# Altium integrated library TI Power Management Switching Regulator Charge Pump (Inductorless).IntLib: 239 symbols (part 6 of 14)
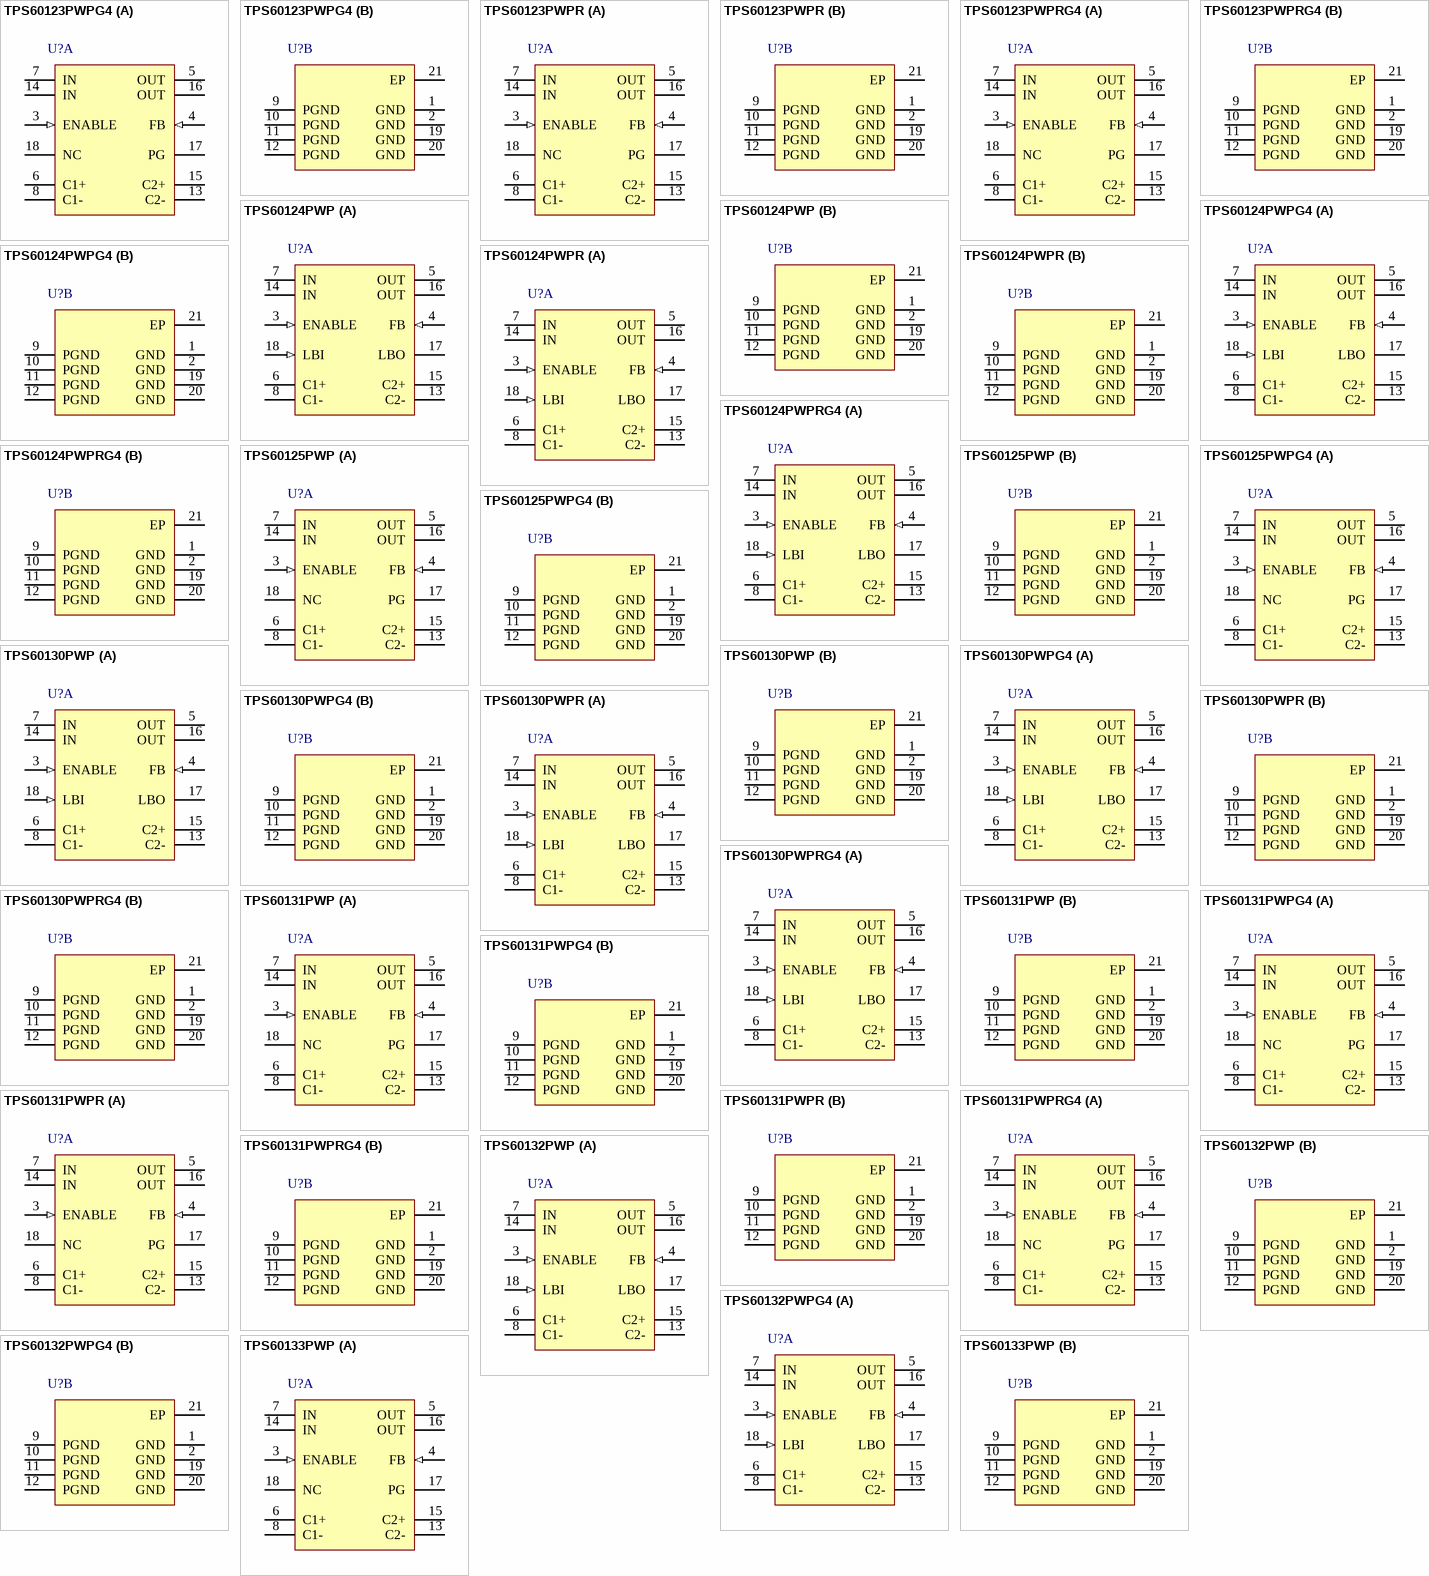
[diagram p12: symbols TPS60123PWPG4 to TPS60133PWP]

## TPS60125PWPG4
designator U?
3 V, Step-Up Charge Pump Regulator, 200 mA, 1.8 to 3.6 V Input with 2-Cell Alkaline / Nixx Input, -40 to 85 degC, 20-pin SOP (PWP20), Green (RoHS & no Sb/Br); Manufacturer: Texas Instruments; PartNumber: TPS60125PWPG4; 2-Cell Alkaline/Nixx Input: TRUE; Efficiency(Typ)(%): 85; Iout(Max)(A): 0.2; Iq(Typ)(mA): 0.055; Preset Vout(V): 3; Switching Frequency(Max)(kHz): 450; Topology: Boost; Vin(Max)(V): 3.6; Vin(Min)(V): 1.8; Vout(Max)(V): 3.12; Vout(Min)(V): 2.88; DatasheetVersion: SLVS257B; PackageVersion: 4073225-4/I; PackageReference: PWP20-2680X1950TP; PackageDescription: 20-Pin Plastic Small Outline, Body 6.5 x 4.4 mm, Pitch 0.65 mm; Supplier 1: Digi-Key; Supplier Part Number 1: TPS60125PWPG4-ND; Supplier 2: Mouser; Supplier Part Number 2: 595-TPS60125PWPG4; Eco-Plan: Green (RoHS & no Sb/Br); Mounting Technology: Surface Mount; Code_JEDEC: MO-153; ComponentLink1Description: Manufacturer URL; ComponentLink1URL: http://www.ti.com/; ComponentLink2Description: Datasheet; ComponentLink2URL: http://www.ti.com/general/docs/lit/getliterature.tsp?genericPartNumber=TPS60125&fileType=pdf; ComponentLink3Description: Package Specification; ComponentLink3URL: http://www.ti.com/litv/pdf/mhts001g
footprint TI-PWP20-2680X1950TP_N (SOP, 20-Leads, Body 6.4x4.4mm, Pitch 0.65mm, Thermal Pad 1.95x2.675mm, IPC Medium Density)
footprint TI-PWP20-2680X1950TP_L (SOP, 20-Leads, Body 6.4x4.4mm, Pitch 0.65mm, Thermal Pad 1.95x2.675mm, IPC High Density)
footprint TI-PWP20-2680X1950TP_M (SOP, 20-Leads, Body 6.4x4.4mm, Pitch 0.65mm, Thermal Pad 1.95x2.675mm, IPC Low Density)
part A pins: 3 ENABLE (in) "ENABLE input. Connect ENABLE to IN for normal operation. When ENABLE is a logic low, the device turns off and the supply current decreases to 0.05 µA. The output is disconnected from the input when the device is placed in", 4 FB (in) "Feedback input. Connect FB to OUT as close to the load as possible to achieve best regulation. Resistive divider is on the chip to match the internal reference voltage of 1.21 V.", 5 OUT (power) "Regulated power output. Connect both OUT terminals through a short trace and bypass OUT to GND with the output filter capacitor CO.", 6 C1+ "Positive terminal of the flying capacitor C1", 7 IN (power) "Supply input. Connect to an input supply in the 1.8-V to 3.6-V range. Bypass IN to PGND with a (CO/2) µF capacitor .Connect both INs through a short trace.", 8 C1- "Negative terminal of the flying capacitor C1", 13 C2- "Negative terminal of the flying capacitor C2", 14 IN (power) "Supply input. Connect to an input supply in the 1.8-V to 3.6-V range. Bypass IN to PGND with a (CO/2) µF capacitor .Connect both INs through a short trace.", 15 C2+ "Positive terminal of the flying capacitor C2", 16 OUT (power) "Regulated power output. Connect both OUT terminals through a short trace and bypass OUT to GND with the output filter capacitor CO.", 17 PG (hiz) "Low battery detector output or power good output. Open drain output of the low battery or power-good comparator. It can sink 1 mA. A 100-k ohm to 1-Mohm pullup is recommended. Leave terminal unconnected if not used.", 18 NC "Low battery detector input (TPS60120/TPS60122/TPS60124 only). The input is compared to the internal 1.21-V reference voltage. Connect terminal to ground if the low-battery detector function is not used. On the TPS60121, (See Datasheet)"
part B pins: 1 GND (power) "Ground. Analog ground for internal reference and control circuitry. Connect to PGND through a short trace.", 2 GND (power) "Ground. Analog ground for internal reference and control circuitry. Connect to PGND through a short trace.", 9 PGND (power) "Power ground. Charge-pump current flows through this pin. Connect all PGND pins together.", 10 PGND (power) "Power ground. Charge-pump current flows through this pin. Connect all PGND pins together.", 11 PGND (power) "Power ground. Charge-pump current flows through this pin. Connect all PGND pins together.", 12 PGND (power) "Power ground. Charge-pump current flows through this pin. Connect all PGND pins together.", 19 GND (power) "Ground. Analog ground for internal reference and control circuitry. Connect to PGND through a short trace.", 20 GND (power) "Ground. Analog ground for internal reference and control circuitry. Connect to PGND through a short trace.", 21 EP "The Thermal Pad."

## TPS60130PWP
designator U?
5 V, Boost Charge Pump, 300 mA, 2.7 to 5.4 V Input, -40 to 85 degC, 20-pin SOP (PWP20), Green (RoHS & no Sb/Br); Manufacturer: Texas Instruments; PartNumber: TPS60130PWP; Efficiency(Typ)(%): 85; Iout(Max)(A): 0.3; Iq(Typ)(mA): 0.06; Preset Vout(V): 5; Switching Frequency(Max)(kHz): 450; Vin(Max)(V): 5.4; Vin(Min)(V): 2.7; Vout(Max)(V): 4.8; Vout(Min)(V): 5.2; DatasheetVersion: SLVS258A; PackageVersion: 4073225-4/I; PackageReference: PWP20-2680X1950TP; PackageDescription: 20-Pin Plastic Small Outline, Body 6.5 x 4.4 mm, Pitch 0.65 mm; Supplier 1: Digi-Key; Supplier Part Number 1: 296-2271-5-ND; Supplier 2: Newark; Supplier Part Number 2: 19C9053; Supplier 3: Mouser; Supplier Part Number 3: 595-TPS60130PWP; Eco-Plan: Green (RoHS & no Sb/Br); Topology: Boost; Mounting Technology: Surface Mount; Code_JEDEC: MO-153; ComponentLink1Description: Manufacturer URL; ComponentLink1URL: http://www.ti.com/; ComponentLink2Description: Datasheet; ComponentLink2URL: http://www.ti.com/general/docs/lit/getliterature.tsp?genericPartNumber=TPS60130&fileType=pdf; ComponentLink3Description: Package Specification; ComponentLink3URL: http://www.ti.com/litv/pdf/mhts001g
footprint TI-PWP20-2680X1950TP_N (SOP, 20-Leads, Body 6.4x4.4mm, Pitch 0.65mm, Thermal Pad 1.95x2.675mm, IPC Medium Density)
footprint TI-PWP20-2680X1950TP_L (SOP, 20-Leads, Body 6.4x4.4mm, Pitch 0.65mm, Thermal Pad 1.95x2.675mm, IPC High Density)
footprint TI-PWP20-2680X1950TP_M (SOP, 20-Leads, Body 6.4x4.4mm, Pitch 0.65mm, Thermal Pad 1.95x2.675mm, IPC Low Density)
part A pins: 3 ENABLE (in) "ENABLE input. Connect ENABLE to IN for normal operation. When ENABLE is a logic low, the device turns off and the supply current decreases to 0.05 uA. The output is disconnected from the input when the device is placed in (See Datasheet)", 4 FB (in) "Feedback input. Connect FB to OUT as close to the load as possible to achieve best regulation. Resistive divider is on the chip to match the internal reference voltage of 1.21 V.", 5 OUT (power) "Regulated power output. Connect both OUT terminals through a short trace and bypass OUT to GND with the output filter capacitor CO.", 6 C1+ "Positive terminal of the flying capacitor C1", 7 IN (power) "Supply input. Connect to an input supply in the 1.8-V to 3.6-V range. Bypass IN to PGND with a (CO/2) uF capacitor.Connect both INs through a short trace.", 8 C1- "Negative terminal of the flying capacitor C1", 13 C2- "Negative terminal of the flying capacitor C2", 14 IN (power) "Supply input. Connect to an input supply in the 1.8-V to 3.6-V range. Bypass IN to PGND with a (CO/2) uF capacitor.Connect both INs through a short trace.", 15 C2+ "Positive terminal of the flying capacitor C2", 16 OUT (power) "Regulated power output. Connect both OUT terminals through a short trace and bypass OUT to GND with the output filter capacitor CO.", 17 LBO (hiz) "Low battery detector output or power good output. Open drain output of the low battery or power-good comparator.It can sink 1 mA. A 100-kohm to 1-Mohm pullup is recommended. Leave terminal unconnected if not used.", 18 LBI (in) "Low battery detector input (TPS60120/TPS60122/TPS60124 only). The input is compared to the internal 1.21-V reference voltage. Connect terminal to ground if the low-battery detector function is not used. On the (See Datasheet)"
part B pins: 1 GND (power) "Ground. Analog ground for internal reference and control circuitry. Connect to PGND through a short trace.", 2 GND (power) "Ground. Analog ground for internal reference and control circuitry. Connect to PGND through a short trace.", 9 PGND (power) "Power ground. Charge-pump current flows through this pin. Connect all PGND pins together.", 10 PGND (power) "Power ground. Charge-pump current flows through this pin. Connect all PGND pins together.", 11 PGND (power) "Power ground. Charge-pump current flows through this pin. Connect all PGND pins together.", 12 PGND (power) "Power ground. Charge-pump current flows through this pin. Connect all PGND pins together.", 19 GND (power) "Ground. Analog ground for internal reference and control circuitry. Connect to PGND through a short trace.", 20 GND (power) "Ground. Analog ground for internal reference and control circuitry. Connect to PGND through a short trace.", 21 EP "The Thermal Pad."

## TPS60130PWPG4
designator U?
5 V, Boost Charge Pump, 300 mA, 2.7 to 5.4 V Input, -40 to 85 degC, 20-pin SOP (PWP20), Green (RoHS & no Sb/Br); Manufacturer: Texas Instruments; PartNumber: TPS60130PWPG4; Efficiency(Typ)(%): 85; Iout(Max)(A): 0.3; Iq(Typ)(mA): 0.06; Preset Vout(V): 5; Switching Frequency(Max)(kHz): 450; Vin(Max)(V): 5.4; Vin(Min)(V): 2.7; Vout(Max)(V): 4.8; Vout(Min)(V): 5.2; DatasheetVersion: SLVS258A; PackageVersion: 4073225-4/I; PackageReference: PWP20-2680X1950TP; PackageDescription: 20-Pin Plastic Small Outline, Body 6.5 x 4.4 mm, Pitch 0.65 mm; Supplier 1: Digi-Key; Supplier Part Number 1: TPS60130PWPG4-ND; Supplier 2: Mouser; Supplier Part Number 2: 595-TPS60130PWPG4; Eco-Plan: Green (RoHS & no Sb/Br); Topology: Boost; Mounting Technology: Surface Mount; Code_JEDEC: MO-153; ComponentLink1Description: Manufacturer URL; ComponentLink1URL: http://www.ti.com/; ComponentLink2Description: Datasheet; ComponentLink2URL: http://www.ti.com/general/docs/lit/getliterature.tsp?genericPartNumber=TPS60130&fileType=pdf; ComponentLink3Description: Package Specification; ComponentLink3URL: http://www.ti.com/litv/pdf/mhts001g
footprint TI-PWP20-2680X1950TP_N (SOP, 20-Leads, Body 6.4x4.4mm, Pitch 0.65mm, Thermal Pad 1.95x2.675mm, IPC Medium Density)
footprint TI-PWP20-2680X1950TP_L (SOP, 20-Leads, Body 6.4x4.4mm, Pitch 0.65mm, Thermal Pad 1.95x2.675mm, IPC High Density)
footprint TI-PWP20-2680X1950TP_M (SOP, 20-Leads, Body 6.4x4.4mm, Pitch 0.65mm, Thermal Pad 1.95x2.675mm, IPC Low Density)
part A pins: 3 ENABLE (in) "ENABLE input. Connect ENABLE to IN for normal operation. When ENABLE is a logic low, the device turns off and the supply current decreases to 0.05 uA. The output is disconnected from the input when the device is placed in (See Datasheet)", 4 FB (in) "Feedback input. Connect FB to OUT as close to the load as possible to achieve best regulation. Resistive divider is on the chip to match the internal reference voltage of 1.21 V.", 5 OUT (power) "Regulated power output. Connect both OUT terminals through a short trace and bypass OUT to GND with the output filter capacitor CO.", 6 C1+ "Positive terminal of the flying capacitor C1", 7 IN (power) "Supply input. Connect to an input supply in the 1.8-V to 3.6-V range. Bypass IN to PGND with a (CO/2) uF capacitor.Connect both INs through a short trace.", 8 C1- "Negative terminal of the flying capacitor C1", 13 C2- "Negative terminal of the flying capacitor C2", 14 IN (power) "Supply input. Connect to an input supply in the 1.8-V to 3.6-V range. Bypass IN to PGND with a (CO/2) uF capacitor.Connect both INs through a short trace.", 15 C2+ "Positive terminal of the flying capacitor C2", 16 OUT (power) "Regulated power output. Connect both OUT terminals through a short trace and bypass OUT to GND with the output filter capacitor CO.", 17 LBO (hiz) "Low battery detector output or power good output. Open drain output of the low battery or power-good comparator.It can sink 1 mA. A 100-kohm to 1-Mohm pullup is recommended. Leave terminal unconnected if not used.", 18 LBI (in) "Low battery detector input (TPS60120/TPS60122/TPS60124 only). The input is compared to the internal 1.21-V reference voltage. Connect terminal to ground if the low-battery detector function is not used. On the (See Datasheet)"
part B pins: 1 GND (power) "Ground. Analog ground for internal reference and control circuitry. Connect to PGND through a short trace.", 2 GND (power) "Ground. Analog ground for internal reference and control circuitry. Connect to PGND through a short trace.", 9 PGND (power) "Power ground. Charge-pump current flows through this pin. Connect all PGND pins together.", 10 PGND (power) "Power ground. Charge-pump current flows through this pin. Connect all PGND pins together.", 11 PGND (power) "Power ground. Charge-pump current flows through this pin. Connect all PGND pins together.", 12 PGND (power) "Power ground. Charge-pump current flows through this pin. Connect all PGND pins together.", 19 GND (power) "Ground. Analog ground for internal reference and control circuitry. Connect to PGND through a short trace.", 20 GND (power) "Ground. Analog ground for internal reference and control circuitry. Connect to PGND through a short trace.", 21 EP "The Thermal Pad."

## TPS60130PWPR
designator U?
5 V, Boost Charge Pump, 300 mA, 2.7 to 5.4 V Input, -40 to 85 degC, 20-pin SOP (PWP20), Green (RoHS & no Sb/Br); Manufacturer: Texas Instruments; PartNumber: TPS60130PWPR; Efficiency(Typ)(%): 85; Iout(Max)(A): 0.3; Iq(Typ)(mA): 0.06; Preset Vout(V): 5; Switching Frequency(Max)(kHz): 450; Vin(Max)(V): 5.4; Vin(Min)(V): 2.7; Vout(Max)(V): 4.8; Vout(Min)(V): 5.2; DatasheetVersion: SLVS258A; PackageVersion: 4073225-4/I; PackageReference: PWP20-2680X1950TP; PackageDescription: 20-Pin Plastic Small Outline, Body 6.5 x 4.4 mm, Pitch 0.65 mm; Supplier 1: Digi-Key; Supplier Part Number 1: TPS60130PWPR-ND; Supplier 2: Mouser; Supplier Part Number 2: 595-TPS60130PWPR; Eco-Plan: Green (RoHS & no Sb/Br); Topology: Boost; Mounting Technology: Surface Mount; Code_JEDEC: MO-153; ComponentLink1Description: Manufacturer URL; ComponentLink1URL: http://www.ti.com/; ComponentLink2Description: Datasheet; ComponentLink2URL: http://www.ti.com/general/docs/lit/getliterature.tsp?genericPartNumber=TPS60130&fileType=pdf; ComponentLink3Description: Package Specification; ComponentLink3URL: http://www.ti.com/litv/pdf/mhts001g
footprint TI-PWP20-2680X1950TP_N (SOP, 20-Leads, Body 6.4x4.4mm, Pitch 0.65mm, Thermal Pad 1.95x2.675mm, IPC Medium Density)
footprint TI-PWP20-2680X1950TP_L (SOP, 20-Leads, Body 6.4x4.4mm, Pitch 0.65mm, Thermal Pad 1.95x2.675mm, IPC High Density)
footprint TI-PWP20-2680X1950TP_M (SOP, 20-Leads, Body 6.4x4.4mm, Pitch 0.65mm, Thermal Pad 1.95x2.675mm, IPC Low Density)
part A pins: 3 ENABLE (in) "ENABLE input. Connect ENABLE to IN for normal operation. When ENABLE is a logic low, the device turns off and the supply current decreases to 0.05 uA. The output is disconnected from the input when the device is placed in (See Datasheet)", 4 FB (in) "Feedback input. Connect FB to OUT as close to the load as possible to achieve best regulation. Resistive divider is on the chip to match the internal reference voltage of 1.21 V.", 5 OUT (power) "Regulated power output. Connect both OUT terminals through a short trace and bypass OUT to GND with the output filter capacitor CO.", 6 C1+ "Positive terminal of the flying capacitor C1", 7 IN (power) "Supply input. Connect to an input supply in the 1.8-V to 3.6-V range. Bypass IN to PGND with a (CO/2) uF capacitor.Connect both INs through a short trace.", 8 C1- "Negative terminal of the flying capacitor C1", 13 C2- "Negative terminal of the flying capacitor C2", 14 IN (power) "Supply input. Connect to an input supply in the 1.8-V to 3.6-V range. Bypass IN to PGND with a (CO/2) uF capacitor.Connect both INs through a short trace.", 15 C2+ "Positive terminal of the flying capacitor C2", 16 OUT (power) "Regulated power output. Connect both OUT terminals through a short trace and bypass OUT to GND with the output filter capacitor CO.", 17 LBO (hiz) "Low battery detector output or power good output. Open drain output of the low battery or power-good comparator.It can sink 1 mA. A 100-kohm to 1-Mohm pullup is recommended. Leave terminal unconnected if not used.", 18 LBI (in) "Low battery detector input (TPS60120/TPS60122/TPS60124 only). The input is compared to the internal 1.21-V reference voltage. Connect terminal to ground if the low-battery detector function is not used. On the (See Datasheet)"
part B pins: 1 GND (power) "Ground. Analog ground for internal reference and control circuitry. Connect to PGND through a short trace.", 2 GND (power) "Ground. Analog ground for internal reference and control circuitry. Connect to PGND through a short trace.", 9 PGND (power) "Power ground. Charge-pump current flows through this pin. Connect all PGND pins together.", 10 PGND (power) "Power ground. Charge-pump current flows through this pin. Connect all PGND pins together.", 11 PGND (power) "Power ground. Charge-pump current flows through this pin. Connect all PGND pins together.", 12 PGND (power) "Power ground. Charge-pump current flows through this pin. Connect all PGND pins together.", 19 GND (power) "Ground. Analog ground for internal reference and control circuitry. Connect to PGND through a short trace.", 20 GND (power) "Ground. Analog ground for internal reference and control circuitry. Connect to PGND through a short trace.", 21 EP "The Thermal Pad."

## TPS60130PWPRG4
designator U?
5 V, Boost Charge Pump, 300 mA, 2.7 to 5.4 V Input, -40 to 85 degC, 20-pin SOP (PWP20), Green (RoHS & no Sb/Br); Manufacturer: Texas Instruments; PartNumber: TPS60130PWPRG4; Efficiency(Typ)(%): 85; Iout(Max)(A): 0.3; Iq(Typ)(mA): 0.06; Preset Vout(V): 5; Switching Frequency(Max)(kHz): 450; Vin(Max)(V): 5.4; Vin(Min)(V): 2.7; Vout(Max)(V): 4.8; Vout(Min)(V): 5.2; DatasheetVersion: SLVS258A; PackageVersion: 4073225-4/I; PackageReference: PWP20-2680X1950TP; PackageDescription: 20-Pin Plastic Small Outline, Body 6.5 x 4.4 mm, Pitch 0.65 mm; Supplier 1: Digi-Key; Supplier Part Number 1: TPS60130PWPRG4-ND; Supplier 2: Mouser; Supplier Part Number 2: 595-TPS60130PWPRG4; Eco-Plan: Green (RoHS & no Sb/Br); Topology: Boost; Mounting Technology: Surface Mount; Code_JEDEC: MO-153; ComponentLink1Description: Manufacturer URL; ComponentLink1URL: http://www.ti.com/; ComponentLink2Description: Datasheet; ComponentLink2URL: http://www.ti.com/general/docs/lit/getliterature.tsp?genericPartNumber=TPS60130&fileType=pdf; ComponentLink3Description: Package Specification; ComponentLink3URL: http://www.ti.com/litv/pdf/mhts001g
footprint TI-PWP20-2680X1950TP_N (SOP, 20-Leads, Body 6.4x4.4mm, Pitch 0.65mm, Thermal Pad 1.95x2.675mm, IPC Medium Density)
footprint TI-PWP20-2680X1950TP_L (SOP, 20-Leads, Body 6.4x4.4mm, Pitch 0.65mm, Thermal Pad 1.95x2.675mm, IPC High Density)
footprint TI-PWP20-2680X1950TP_M (SOP, 20-Leads, Body 6.4x4.4mm, Pitch 0.65mm, Thermal Pad 1.95x2.675mm, IPC Low Density)
part A pins: 3 ENABLE (in) "ENABLE input. Connect ENABLE to IN for normal operation. When ENABLE is a logic low, the device turns off and the supply current decreases to 0.05 uA. The output is disconnected from the input when the device is placed in (See Datasheet)", 4 FB (in) "Feedback input. Connect FB to OUT as close to the load as possible to achieve best regulation. Resistive divider is on the chip to match the internal reference voltage of 1.21 V.", 5 OUT (power) "Regulated power output. Connect both OUT terminals through a short trace and bypass OUT to GND with the output filter capacitor CO.", 6 C1+ "Positive terminal of the flying capacitor C1", 7 IN (power) "Supply input. Connect to an input supply in the 1.8-V to 3.6-V range. Bypass IN to PGND with a (CO/2) uF capacitor.Connect both INs through a short trace.", 8 C1- "Negative terminal of the flying capacitor C1", 13 C2- "Negative terminal of the flying capacitor C2", 14 IN (power) "Supply input. Connect to an input supply in the 1.8-V to 3.6-V range. Bypass IN to PGND with a (CO/2) uF capacitor.Connect both INs through a short trace.", 15 C2+ "Positive terminal of the flying capacitor C2", 16 OUT (power) "Regulated power output. Connect both OUT terminals through a short trace and bypass OUT to GND with the output filter capacitor CO.", 17 LBO (hiz) "Low battery detector output or power good output. Open drain output of the low battery or power-good comparator.It can sink 1 mA. A 100-kohm to 1-Mohm pullup is recommended. Leave terminal unconnected if not used.", 18 LBI (in) "Low battery detector input (TPS60120/TPS60122/TPS60124 only). The input is compared to the internal 1.21-V reference voltage. Connect terminal to ground if the low-battery detector function is not used. On the (See Datasheet)"
part B pins: 1 GND (power) "Ground. Analog ground for internal reference and control circuitry. Connect to PGND through a short trace.", 2 GND (power) "Ground. Analog ground for internal reference and control circuitry. Connect to PGND through a short trace.", 9 PGND (power) "Power ground. Charge-pump current flows through this pin. Connect all PGND pins together.", 10 PGND (power) "Power ground. Charge-pump current flows through this pin. Connect all PGND pins together.", 11 PGND (power) "Power ground. Charge-pump current flows through this pin. Connect all PGND pins together.", 12 PGND (power) "Power ground. Charge-pump current flows through this pin. Connect all PGND pins together.", 19 GND (power) "Ground. Analog ground for internal reference and control circuitry. Connect to PGND through a short trace.", 20 GND (power) "Ground. Analog ground for internal reference and control circuitry. Connect to PGND through a short trace.", 21 EP "The Thermal Pad."

## TPS60131PWP
designator U?
5 V, Boost Charge Pump, 300 mA, 2.7 to 5.4 V Input, -40 to 85 degC, 20-pin SOP (PWP20), Green (RoHS & no Sb/Br); Manufacturer: Texas Instruments; PartNumber: TPS60131PWP; Efficiency(Typ)(%): 85; Iout(Max)(A): 0.3; Iq(Typ)(mA): 0.06; Preset Vout(V): 5; Switching Frequency(Max)(kHz): 450; Vin(Max)(V): 5.4; Vin(Min)(V): 2.7; Vout(Max)(V): 4.8; Vout(Min)(V): 5.2; DatasheetVersion: SLVS258A; PackageVersion: 4073225-4/I; PackageReference: PWP20-2680X1950TP; PackageDescription: 20-Pin Plastic Small Outline, Body 6.5 x 4.4 mm, Pitch 0.65 mm; Supplier 1: Digi-Key; Supplier Part Number 1: 296-2272-5-ND; Supplier 2: Mouser; Supplier Part Number 2: 595-TPS60131PWP; Eco-Plan: Green (RoHS & no Sb/Br); Topology: Boost; Mounting Technology: Surface Mount; Code_JEDEC: MO-153; ComponentLink1Description: Manufacturer URL; ComponentLink1URL: http://www.ti.com/; ComponentLink2Description: Datasheet; ComponentLink2URL: http://www.ti.com/general/docs/lit/getliterature.tsp?genericPartNumber=TPS60131&fileType=pdf; ComponentLink3Description: Package Specification; ComponentLink3URL: http://www.ti.com/litv/pdf/mhts001g
footprint TI-PWP20-2680X1950TP_N (SOP, 20-Leads, Body 6.4x4.4mm, Pitch 0.65mm, Thermal Pad 1.95x2.675mm, IPC Medium Density)
footprint TI-PWP20-2680X1950TP_L (SOP, 20-Leads, Body 6.4x4.4mm, Pitch 0.65mm, Thermal Pad 1.95x2.675mm, IPC High Density)
footprint TI-PWP20-2680X1950TP_M (SOP, 20-Leads, Body 6.4x4.4mm, Pitch 0.65mm, Thermal Pad 1.95x2.675mm, IPC Low Density)
part A pins: 3 ENABLE (in) "Enable input. Connect ENABLE to IN for normal operation. When ENABLE is a logic low, the device turns off and the supply current decreases to 0.05 uA. The output is disconnected from the input when the device is disabled.", 4 FB (in) "Feedback input. Connect FB to OUT as close to the load as possible to achieve best regulation. A resistive divider is on the chip to match internal reference voltage of 1.21 V.", 5 OUT (power) "Regulated 5-V power output. Connect both OUT terminals through a short trace and bypass OUT to GND with the output filter capacitor CO.", 6 C1+ "Positive terminal of the flying capacitor C1", 7 IN (power) "Supply input. Bypass IN to PGND with a capacitor that has half of the capacitance of the output capacitor. Connect both IN terminals together through a short trace.", 8 C1- "Negative terminal of the flying capacitor C1", 13 C2- "Negative terminal of the flying capacitor C2", 14 IN (power) "Supply input. Bypass IN to PGND with a capacitor that has half of the capacitance of the output capacitor. Connect both IN terminals together through a short trace.", 15 C2+ "Positive terminal of the flying capacitor C2", 16 OUT (power) "Regulated 5-V power output. Connect both OUT terminals through a short trace and bypass OUT to GND with the output filter capacitor CO.", 17 PG (hiz) "Open drain output of the low battery or power good comparator. It can sink 1 mA. A 100-k ohm to 1-Mohm pullup resistor to OUT is recommended. Leave the terminal unconnected if the low battery or power good detector is not (See Datasheet)", 18 NC "This terminal is not connected."
part B pins: 1 GND (power) "Ground. Analog ground for internal reference and control circuitry. Connect to PGND terminals through a short trace.", 2 GND (power) "Ground. Analog ground for internal reference and control circuitry. Connect to PGND terminals through a short trace.", 9 PGND (power) "Power ground. Charge-pump current flows through this pin. Connect all PGND terminals together.", 10 PGND (power) "Power ground. Charge-pump current flows through this pin. Connect all PGND terminals together.", 11 PGND (power) "Power ground. Charge-pump current flows through this pin. Connect all PGND terminals together.", 12 PGND (power) "Power ground. Charge-pump current flows through this pin. Connect all PGND terminals together.", 19 GND (power) "Ground. Analog ground for internal reference and control circuitry. Connect to PGND terminals through a short trace.", 20 GND (power) "Ground. Analog ground for internal reference and control circuitry. Connect to PGND terminals through a short trace.", 21 EP "Exposed thermal pad."

## TPS60131PWPG4
designator U?
5 V, Boost Charge Pump, 300 mA, 2.7 to 5.4 V Input, -40 to 85 degC, 20-pin SOP (PWP20), Green (RoHS & no Sb/Br); Manufacturer: Texas Instruments; PartNumber: TPS60131PWPG4; Efficiency(Typ)(%): 85; Iout(Max)(A): 0.3; Iq(Typ)(mA): 0.06; Preset Vout(V): 5; Switching Frequency(Max)(kHz): 450; Vin(Max)(V): 5.4; Vin(Min)(V): 2.7; Vout(Max)(V): 4.8; Vout(Min)(V): 5.2; DatasheetVersion: SLVS258A; PackageVersion: 4073225-4/I; PackageReference: PWP20-2680X1950TP; PackageDescription: 20-Pin Plastic Small Outline, Body 6.5 x 4.4 mm, Pitch 0.65 mm; Supplier 1: Digi-Key; Supplier Part Number 1: TPS60131PWPG4-ND; Supplier 2: Farnell; Supplier Part Number 2: 1214368; Supplier 3: Newark; Supplier Part Number 3: 98K1819; Supplier 4: Mouser; Supplier Part Number 4: 595-TPS60131PWPG4; Eco-Plan: Green (RoHS & no Sb/Br); Topology: Boost; Mounting Technology: Surface Mount; Code_JEDEC: MO-153; ComponentLink1Description: Manufacturer URL; ComponentLink1URL: http://www.ti.com/; ComponentLink2Description: Datasheet; ComponentLink2URL: http://www.ti.com/general/docs/lit/getliterature.tsp?genericPartNumber=TPS60131&fileType=pdf; ComponentLink3Description: Package Specification; ComponentLink3URL: http://www.ti.com/litv/pdf/mhts001g
footprint TI-PWP20-2680X1950TP_N (SOP, 20-Leads, Body 6.4x4.4mm, Pitch 0.65mm, Thermal Pad 1.95x2.675mm, IPC Medium Density)
footprint TI-PWP20-2680X1950TP_L (SOP, 20-Leads, Body 6.4x4.4mm, Pitch 0.65mm, Thermal Pad 1.95x2.675mm, IPC High Density)
footprint TI-PWP20-2680X1950TP_M (SOP, 20-Leads, Body 6.4x4.4mm, Pitch 0.65mm, Thermal Pad 1.95x2.675mm, IPC Low Density)
part A pins: 3 ENABLE (in) "Enable input. Connect ENABLE to IN for normal operation. When ENABLE is a logic low, the device turns off and the supply current decreases to 0.05 uA. The output is disconnected from the input when the device is disabled.", 4 FB (in) "Feedback input. Connect FB to OUT as close to the load as possible to achieve best regulation. A resistive divider is on the chip to match internal reference voltage of 1.21 V.", 5 OUT (power) "Regulated 5-V power output. Connect both OUT terminals through a short trace and bypass OUT to GND with the output filter capacitor CO.", 6 C1+ "Positive terminal of the flying capacitor C1", 7 IN (power) "Supply input. Bypass IN to PGND with a capacitor that has half of the capacitance of the output capacitor. Connect both IN terminals together through a short trace.", 8 C1- "Negative terminal of the flying capacitor C1", 13 C2- "Negative terminal of the flying capacitor C2", 14 IN (power) "Supply input. Bypass IN to PGND with a capacitor that has half of the capacitance of the output capacitor. Connect both IN terminals together through a short trace.", 15 C2+ "Positive terminal of the flying capacitor C2", 16 OUT (power) "Regulated 5-V power output. Connect both OUT terminals through a short trace and bypass OUT to GND with the output filter capacitor CO.", 17 PG (hiz) "Open drain output of the low battery or power good comparator. It can sink 1 mA. A 100-k ohm to 1-Mohm pullup resistor to OUT is recommended. Leave the terminal unconnected if the low battery or power good detector is not (See Datasheet)", 18 NC "This terminal is not connected."
part B pins: 1 GND (power) "Ground. Analog ground for internal reference and control circuitry. Connect to PGND terminals through a short trace.", 2 GND (power) "Ground. Analog ground for internal reference and control circuitry. Connect to PGND terminals through a short trace.", 9 PGND (power) "Power ground. Charge-pump current flows through this pin. Connect all PGND terminals together.", 10 PGND (power) "Power ground. Charge-pump current flows through this pin. Connect all PGND terminals together.", 11 PGND (power) "Power ground. Charge-pump current flows through this pin. Connect all PGND terminals together.", 12 PGND (power) "Power ground. Charge-pump current flows through this pin. Connect all PGND terminals together.", 19 GND (power) "Ground. Analog ground for internal reference and control circuitry. Connect to PGND terminals through a short trace.", 20 GND (power) "Ground. Analog ground for internal reference and control circuitry. Connect to PGND terminals through a short trace.", 21 EP "Exposed thermal pad."

## TPS60131PWPR
designator U?
5 V, Boost Charge Pump, 300 mA, 2.7 to 5.4 V Input, -40 to 85 degC, 20-pin SOP (PWP20), Green (RoHS & no Sb/Br); Manufacturer: Texas Instruments; PartNumber: TPS60131PWPR; Efficiency(Typ)(%): 85; Iout(Max)(A): 0.3; Iq(Typ)(mA): 0.06; Preset Vout(V): 5; Switching Frequency(Max)(kHz): 450; Vin(Max)(V): 5.4; Vin(Min)(V): 2.7; Vout(Max)(V): 4.8; Vout(Min)(V): 5.2; DatasheetVersion: SLVS258A; PackageVersion: 4073225-4/I; PackageReference: PWP20-2680X1950TP; PackageDescription: 20-Pin Plastic Small Outline, Body 6.5 x 4.4 mm, Pitch 0.65 mm; Supplier 1: Digi-Key; Supplier Part Number 1: TPS60131PWPR-ND; Supplier 2: Newark; Supplier Part Number 2: 77C0571; Supplier 3: Mouser; Supplier Part Number 3: 595-TPS60131PWPR; Eco-Plan: Green (RoHS & no Sb/Br); Topology: Boost; Mounting Technology: Surface Mount; Code_JEDEC: MO-153; ComponentLink1Description: Manufacturer URL; ComponentLink1URL: http://www.ti.com/; ComponentLink2Description: Datasheet; ComponentLink2URL: http://www.ti.com/general/docs/lit/getliterature.tsp?genericPartNumber=TPS60131&fileType=pdf; ComponentLink3Description: Package Specification; ComponentLink3URL: http://www.ti.com/litv/pdf/mhts001g
footprint TI-PWP20-2680X1950TP_N (SOP, 20-Leads, Body 6.4x4.4mm, Pitch 0.65mm, Thermal Pad 1.95x2.675mm, IPC Medium Density)
footprint TI-PWP20-2680X1950TP_L (SOP, 20-Leads, Body 6.4x4.4mm, Pitch 0.65mm, Thermal Pad 1.95x2.675mm, IPC High Density)
footprint TI-PWP20-2680X1950TP_M (SOP, 20-Leads, Body 6.4x4.4mm, Pitch 0.65mm, Thermal Pad 1.95x2.675mm, IPC Low Density)
part A pins: 3 ENABLE (in) "Enable input. Connect ENABLE to IN for normal operation. When ENABLE is a logic low, the device turns off and the supply current decreases to 0.05 uA. The output is disconnected from the input when the device is disabled.", 4 FB (in) "Feedback input. Connect FB to OUT as close to the load as possible to achieve best regulation. A resistive divider is on the chip to match internal reference voltage of 1.21 V.", 5 OUT (power) "Regulated 5-V power output. Connect both OUT terminals through a short trace and bypass OUT to GND with the output filter capacitor CO.", 6 C1+ "Positive terminal of the flying capacitor C1", 7 IN (power) "Supply input. Bypass IN to PGND with a capacitor that has half of the capacitance of the output capacitor. Connect both IN terminals together through a short trace.", 8 C1- "Negative terminal of the flying capacitor C1", 13 C2- "Negative terminal of the flying capacitor C2", 14 IN (power) "Supply input. Bypass IN to PGND with a capacitor that has half of the capacitance of the output capacitor. Connect both IN terminals together through a short trace.", 15 C2+ "Positive terminal of the flying capacitor C2", 16 OUT (power) "Regulated 5-V power output. Connect both OUT terminals through a short trace and bypass OUT to GND with the output filter capacitor CO.", 17 PG (hiz) "Open drain output of the low battery or power good comparator. It can sink 1 mA. A 100-k ohm to 1-Mohm pullup resistor to OUT is recommended. Leave the terminal unconnected if the low battery or power good detector is not (See Datasheet)", 18 NC "This terminal is not connected."
part B pins: 1 GND (power) "Ground. Analog ground for internal reference and control circuitry. Connect to PGND terminals through a short trace.", 2 GND (power) "Ground. Analog ground for internal reference and control circuitry. Connect to PGND terminals through a short trace.", 9 PGND (power) "Power ground. Charge-pump current flows through this pin. Connect all PGND terminals together.", 10 PGND (power) "Power ground. Charge-pump current flows through this pin. Connect all PGND terminals together.", 11 PGND (power) "Power ground. Charge-pump current flows through this pin. Connect all PGND terminals together.", 12 PGND (power) "Power ground. Charge-pump current flows through this pin. Connect all PGND terminals together.", 19 GND (power) "Ground. Analog ground for internal reference and control circuitry. Connect to PGND terminals through a short trace.", 20 GND (power) "Ground. Analog ground for internal reference and control circuitry. Connect to PGND terminals through a short trace.", 21 EP "Exposed thermal pad."

## TPS60131PWPRG4
designator U?
5 V, Boost Charge Pump, 300 mA, 2.7 to 5.4 V Input, -40 to 85 degC, 20-pin SOP (PWP20), Green (RoHS & no Sb/Br); Manufacturer: Texas Instruments; PartNumber: TPS60131PWPRG4; Efficiency(Typ)(%): 85; Iout(Max)(A): 0.3; Iq(Typ)(mA): 0.06; Preset Vout(V): 5; Switching Frequency(Max)(kHz): 450; Vin(Max)(V): 5.4; Vin(Min)(V): 2.7; Vout(Max)(V): 4.8; Vout(Min)(V): 5.2; DatasheetVersion: SLVS258A; PackageVersion: 4073225-4/I; PackageReference: PWP20-2680X1950TP; PackageDescription: 20-Pin Plastic Small Outline, Body 6.5 x 4.4 mm, Pitch 0.65 mm; Supplier 1: Digi-Key; Supplier Part Number 1: TPS60131PWPRG4-ND; Supplier 2: Mouser; Supplier Part Number 2: 595-TPS60131PWPRG4; Eco-Plan: Green (RoHS & no Sb/Br); Topology: Boost; Mounting Technology: Surface Mount; Code_JEDEC: MO-153; ComponentLink1Description: Manufacturer URL; ComponentLink1URL: http://www.ti.com/; ComponentLink2Description: Datasheet; ComponentLink2URL: http://www.ti.com/general/docs/lit/getliterature.tsp?genericPartNumber=TPS60131&fileType=pdf; ComponentLink3Description: Package Specification; ComponentLink3URL: http://www.ti.com/litv/pdf/mhts001g
footprint TI-PWP20-2680X1950TP_N (SOP, 20-Leads, Body 6.4x4.4mm, Pitch 0.65mm, Thermal Pad 1.95x2.675mm, IPC Medium Density)
footprint TI-PWP20-2680X1950TP_L (SOP, 20-Leads, Body 6.4x4.4mm, Pitch 0.65mm, Thermal Pad 1.95x2.675mm, IPC High Density)
footprint TI-PWP20-2680X1950TP_M (SOP, 20-Leads, Body 6.4x4.4mm, Pitch 0.65mm, Thermal Pad 1.95x2.675mm, IPC Low Density)
part A pins: 3 ENABLE (in) "Enable input. Connect ENABLE to IN for normal operation. When ENABLE is a logic low, the device turns off and the supply current decreases to 0.05 uA. The output is disconnected from the input when the device is disabled.", 4 FB (in) "Feedback input. Connect FB to OUT as close to the load as possible to achieve best regulation. A resistive divider is on the chip to match internal reference voltage of 1.21 V.", 5 OUT (power) "Regulated 5-V power output. Connect both OUT terminals through a short trace and bypass OUT to GND with the output filter capacitor CO.", 6 C1+ "Positive terminal of the flying capacitor C1", 7 IN (power) "Supply input. Bypass IN to PGND with a capacitor that has half of the capacitance of the output capacitor. Connect both IN terminals together through a short trace.", 8 C1- "Negative terminal of the flying capacitor C1", 13 C2- "Negative terminal of the flying capacitor C2", 14 IN (power) "Supply input. Bypass IN to PGND with a capacitor that has half of the capacitance of the output capacitor. Connect both IN terminals together through a short trace.", 15 C2+ "Positive terminal of the flying capacitor C2", 16 OUT (power) "Regulated 5-V power output. Connect both OUT terminals through a short trace and bypass OUT to GND with the output filter capacitor CO.", 17 PG (hiz) "Open drain output of the low battery or power good comparator. It can sink 1 mA. A 100-k ohm to 1-Mohm pullup resistor to OUT is recommended. Leave the terminal unconnected if the low battery or power good detector is not (See Datasheet)", 18 NC "This terminal is not connected."
part B pins: 1 GND (power) "Ground. Analog ground for internal reference and control circuitry. Connect to PGND terminals through a short trace.", 2 GND (power) "Ground. Analog ground for internal reference and control circuitry. Connect to PGND terminals through a short trace.", 9 PGND (power) "Power ground. Charge-pump current flows through this pin. Connect all PGND terminals together.", 10 PGND (power) "Power ground. Charge-pump current flows through this pin. Connect all PGND terminals together.", 11 PGND (power) "Power ground. Charge-pump current flows through this pin. Connect all PGND terminals together.", 12 PGND (power) "Power ground. Charge-pump current flows through this pin. Connect all PGND terminals together.", 19 GND (power) "Ground. Analog ground for internal reference and control circuitry. Connect to PGND terminals through a short trace.", 20 GND (power) "Ground. Analog ground for internal reference and control circuitry. Connect to PGND terminals through a short trace.", 21 EP "Exposed thermal pad."

## TPS60132PWP
designator U?
5 V, Boost Charge Pump, 150 mA, 2.7 to 5.4 V Input, -40 to 85 degC, 20-pin SOP (PWP20), Green (RoHS & no Sb/Br); Manufacturer: Texas Instruments; PartNumber: TPS60132PWP; Efficiency(Typ)(%): 85; Iout(Max)(A): 0.15; Iq(Typ)(mA): 0.06; Preset Vout(V): 5; Switching Frequency(Max)(kHz): 450; Vin(Max)(V): 5.4; Vin(Min)(V): 2.7; Vout(Max)(V): 4.8; Vout(Min)(V): 5.2; DatasheetVersion: SLVS258A; PackageVersion: 4073225-4/I; PackageReference: PWP20-2680X1950TP; PackageDescription: 20-Pin Plastic Small Outline, Body 6.5 x 4.4 mm, Pitch 0.65 mm; Supplier 1: Digi-Key; Supplier Part Number 1: 296-2273-5-ND; Supplier 2: Newark; Supplier Part Number 2: 19C9055; Supplier 3: Mouser; Supplier Part Number 3: 595-TPS60132PWP; Eco-Plan: Green (RoHS & no Sb/Br); Topology: Boost; Mounting Technology: Surface Mount; Code_JEDEC: MO-153; ComponentLink1Description: Manufacturer URL; ComponentLink1URL: http://www.ti.com/; ComponentLink2Description: Datasheet; ComponentLink2URL: http://www.ti.com/general/docs/lit/getliterature.tsp?genericPartNumber=TPS60132&fileType=pdf; ComponentLink3Description: Package Specification; ComponentLink3URL: http://www.ti.com/litv/pdf/mhts001g
footprint TI-PWP20-2680X1950TP_N (SOP, 20-Leads, Body 6.4x4.4mm, Pitch 0.65mm, Thermal Pad 1.95x2.675mm, IPC Medium Density)
footprint TI-PWP20-2680X1950TP_L (SOP, 20-Leads, Body 6.4x4.4mm, Pitch 0.65mm, Thermal Pad 1.95x2.675mm, IPC High Density)
footprint TI-PWP20-2680X1950TP_M (SOP, 20-Leads, Body 6.4x4.4mm, Pitch 0.65mm, Thermal Pad 1.95x2.675mm, IPC Low Density)
part A pins: 3 ENABLE (in) "ENABLE input. Connect ENABLE to IN for normal operation. When ENABLE is a logic low, the device turns off and the supply current decreases to 0.05 uA. The output is disconnected from the input when the device is placed in (See Datasheet)", 4 FB (in) "Feedback input. Connect FB to OUT as close to the load as possible to achieve best regulation. Resistive divider is on the chip to match the internal reference voltage of 1.21 V.", 5 OUT (power) "Regulated power output. Connect both OUT terminals through a short trace and bypass OUT to GND with the output filter capacitor CO.", 6 C1+ "Positive terminal of the flying capacitor C1", 7 IN (power) "Supply input. Connect to an input supply in the 1.8-V to 3.6-V range. Bypass IN to PGND with a (CO/2) uF capacitor.Connect both INs through a short trace.", 8 C1- "Negative terminal of the flying capacitor C1", 13 C2- "Negative terminal of the flying capacitor C2", 14 IN (power) "Supply input. Connect to an input supply in the 1.8-V to 3.6-V range. Bypass IN to PGND with a (CO/2) uF capacitor.Connect both INs through a short trace.", 15 C2+ "Positive terminal of the flying capacitor C2", 16 OUT (power) "Regulated power output. Connect both OUT terminals through a short trace and bypass OUT to GND with the output filter capacitor CO.", 17 LBO (hiz) "Low battery detector output or power good output. Open drain output of the low battery or power-good comparator.It can sink 1 mA. A 100-kohm to 1-Mohm pullup is recommended. Leave terminal unconnected if not used.", 18 LBI (in) "Low battery detector input (TPS60120/TPS60122/TPS60124 only). The input is compared to the internal 1.21-V reference voltage. Connect terminal to ground if the low-battery detector function is not used. On the (See Datasheet)"
part B pins: 1 GND (power) "Ground. Analog ground for internal reference and control circuitry. Connect to PGND through a short trace.", 2 GND (power) "Ground. Analog ground for internal reference and control circuitry. Connect to PGND through a short trace.", 9 PGND (power) "Power ground. Charge-pump current flows through this pin. Connect all PGND pins together.", 10 PGND (power) "Power ground. Charge-pump current flows through this pin. Connect all PGND pins together.", 11 PGND (power) "Power ground. Charge-pump current flows through this pin. Connect all PGND pins together.", 12 PGND (power) "Power ground. Charge-pump current flows through this pin. Connect all PGND pins together.", 19 GND (power) "Ground. Analog ground for internal reference and control circuitry. Connect to PGND through a short trace.", 20 GND (power) "Ground. Analog ground for internal reference and control circuitry. Connect to PGND through a short trace.", 21 EP "The Thermal Pad."

## TPS60132PWPG4
designator U?
5 V, Boost Charge Pump, 150 mA, 2.7 to 5.4 V Input, -40 to 85 degC, 20-pin SOP (PWP20), Green (RoHS & no Sb/Br); Manufacturer: Texas Instruments; PartNumber: TPS60132PWPG4; Efficiency(Typ)(%): 85; Iout(Max)(A): 0.15; Iq(Typ)(mA): 0.06; Preset Vout(V): 5; Switching Frequency(Max)(kHz): 450; Vin(Max)(V): 5.4; Vin(Min)(V): 2.7; Vout(Max)(V): 4.8; Vout(Min)(V): 5.2; DatasheetVersion: SLVS258A; PackageVersion: 4073225-4/I; PackageReference: PWP20-2680X1950TP; PackageDescription: 20-Pin Plastic Small Outline, Body 6.5 x 4.4 mm, Pitch 0.65 mm; Supplier 1: Digi-Key; Supplier Part Number 1: TPS60132PWPG4-ND; Supplier 2: Newark; Supplier Part Number 2: 70K5738; Supplier 3: Mouser; Supplier Part Number 3: 595-TPS60132PWPG4; Eco-Plan: Green (RoHS & no Sb/Br); Topology: Boost; Mounting Technology: Surface Mount; Code_JEDEC: MO-153; ComponentLink1Description: Manufacturer URL; ComponentLink1URL: http://www.ti.com/; ComponentLink2Description: Datasheet; ComponentLink2URL: http://www.ti.com/general/docs/lit/getliterature.tsp?genericPartNumber=TPS60132&fileType=pdf; ComponentLink3Description: Package Specification; ComponentLink3URL: http://www.ti.com/litv/pdf/mhts001g
footprint TI-PWP20-2680X1950TP_N (SOP, 20-Leads, Body 6.4x4.4mm, Pitch 0.65mm, Thermal Pad 1.95x2.675mm, IPC Medium Density)
footprint TI-PWP20-2680X1950TP_L (SOP, 20-Leads, Body 6.4x4.4mm, Pitch 0.65mm, Thermal Pad 1.95x2.675mm, IPC High Density)
footprint TI-PWP20-2680X1950TP_M (SOP, 20-Leads, Body 6.4x4.4mm, Pitch 0.65mm, Thermal Pad 1.95x2.675mm, IPC Low Density)
part A pins: 3 ENABLE (in) "ENABLE input. Connect ENABLE to IN for normal operation. When ENABLE is a logic low, the device turns off and the supply current decreases to 0.05 uA. The output is disconnected from the input when the device is placed in (See Datasheet)", 4 FB (in) "Feedback input. Connect FB to OUT as close to the load as possible to achieve best regulation. Resistive divider is on the chip to match the internal reference voltage of 1.21 V.", 5 OUT (power) "Regulated power output. Connect both OUT terminals through a short trace and bypass OUT to GND with the output filter capacitor CO.", 6 C1+ "Positive terminal of the flying capacitor C1", 7 IN (power) "Supply input. Connect to an input supply in the 1.8-V to 3.6-V range. Bypass IN to PGND with a (CO/2) uF capacitor.Connect both INs through a short trace.", 8 C1- "Negative terminal of the flying capacitor C1", 13 C2- "Negative terminal of the flying capacitor C2", 14 IN (power) "Supply input. Connect to an input supply in the 1.8-V to 3.6-V range. Bypass IN to PGND with a (CO/2) uF capacitor.Connect both INs through a short trace.", 15 C2+ "Positive terminal of the flying capacitor C2", 16 OUT (power) "Regulated power output. Connect both OUT terminals through a short trace and bypass OUT to GND with the output filter capacitor CO.", 17 LBO (hiz) "Low battery detector output or power good output. Open drain output of the low battery or power-good comparator.It can sink 1 mA. A 100-kohm to 1-Mohm pullup is recommended. Leave terminal unconnected if not used.", 18 LBI (in) "Low battery detector input (TPS60120/TPS60122/TPS60124 only). The input is compared to the internal 1.21-V reference voltage. Connect terminal to ground if the low-battery detector function is not used. On the (See Datasheet)"
part B pins: 1 GND (power) "Ground. Analog ground for internal reference and control circuitry. Connect to PGND through a short trace.", 2 GND (power) "Ground. Analog ground for internal reference and control circuitry. Connect to PGND through a short trace.", 9 PGND (power) "Power ground. Charge-pump current flows through this pin. Connect all PGND pins together.", 10 PGND (power) "Power ground. Charge-pump current flows through this pin. Connect all PGND pins together.", 11 PGND (power) "Power ground. Charge-pump current flows through this pin. Connect all PGND pins together.", 12 PGND (power) "Power ground. Charge-pump current flows through this pin. Connect all PGND pins together.", 19 GND (power) "Ground. Analog ground for internal reference and control circuitry. Connect to PGND through a short trace.", 20 GND (power) "Ground. Analog ground for internal reference and control circuitry. Connect to PGND through a short trace.", 21 EP "The Thermal Pad."